# Altium footprint library Header_14_100mil_1.PcbLib: 1 footprints
Each footprint in its own frame and in the unit in brackets; x right, y up, seen from the top. Pads: shape width x height; smd on the part's side, far side on the other; paste and mask are expansions set on the pad; w line width, h text height; cw(c..) or ccw(c..) is an arc to the next point about the centre after c.
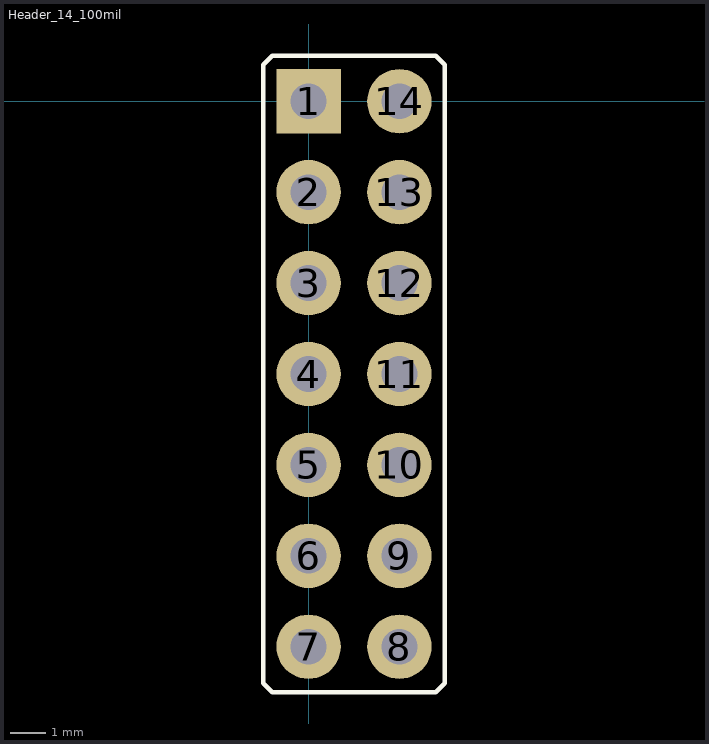
[diagram p0: the footprint, top view; thin cyan lines are the x and y axes]

## Header_14_100mil [mm]
pads (14):
  rect 1.8x1.8 hole 1: 1(0,0)
  round 1.8 hole 1: 2(0,-2.54) 3(0,-5.08) 4(0,-7.62) 5(0,-10.16) 6(0,-12.7) 7(0,-15.24) 8(2.54,-15.24) 9(2.54,-12.7) 10(2.54,-10.16) 11(2.54,-7.62) 12(2.54,-5.08) 13(2.54,-2.54) 14(2.54,0)
Top Overlay:
  lines w0.127: -1.27,-16.256 -1.016,-16.51 3.556,-16.51 3.81,-16.256 3.81,1.016 3.556,1.27 -1.016,1.27 -1.27,1.016 -1.27,-16.256